# Altium schematic symbol library SN74HCT125DRG4.SchLib: 1 symbol
Pins are listed as number, name and electrical type; pins without a type are passive.

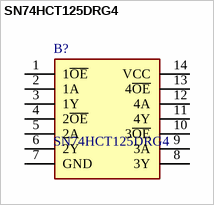
[diagram p0: symbol SN74HCT125DRG4]

## SN74HCT125DRG4
designator B?
Buffer/Line Driver 4-CH Non-Inverting 3-ST CMOS 14-Pin SOIC T/R; Manufacturer_Name: Texas Instruments; Geometry.Height: 1.75mm; Mouser Part Number: *; Mouser Price/Stock: *; Manufacturer_Part_Number: SN74HCT125DRG4; Datasheet Link: http://www.ti.com/general/docs/suppproductinfo.tsp?distId=26&gotoUrl=http%3A%2F%2Fwww.ti.com%2Flit%2Fgpn%2Fsn74hct125
footprint SOIC127P600X175-14N
pins: 1 1~{OE}, 2 1A, 3 1Y, 4 2~{OE}, 5 2A, 6 2Y, 7 GND, 8 3Y, 9 3A, 10 3~{OE}, 11 4Y, 12 4A, 13 4~{OE}, 14 VCC